# Altium schematic symbol library ESD224.SchLib: 1 symbol
Pins are listed as number, name and electrical type; pins without a type are passive.

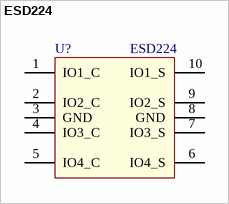
[diagram p0: symbol ESD224]

## ESD224
designator U?
ESD224 Low Clamping 4-Channel ESD Protection Device for HDMI Interface; value: ESD224
pins: 1 IO1_C "ESD protected channel to be connected to the connector", 2 IO2_C "ESD protected channel to be connected to the connector", 3 GND, 4 IO3_C "ESD protected channel to be connected to the connector", 5 IO4_C "ESD protected channel to be connected to the connector", 6 IO4_S, 7 IO3_S, 8 GND, 9 IO2_S, 10 IO1_S